# EAGLE library part PIC18F4550-I/P (library PIC18F4550-I_P)
PIC18 Series 2 kB RAM 32 kB Flash 8-Bit Enhanced Microcontroller - PDIP-40 Check availability <https://pricing.snapeda.com/parts/PIC18F4550-I/P/Microchip/view-part?ref=eda>
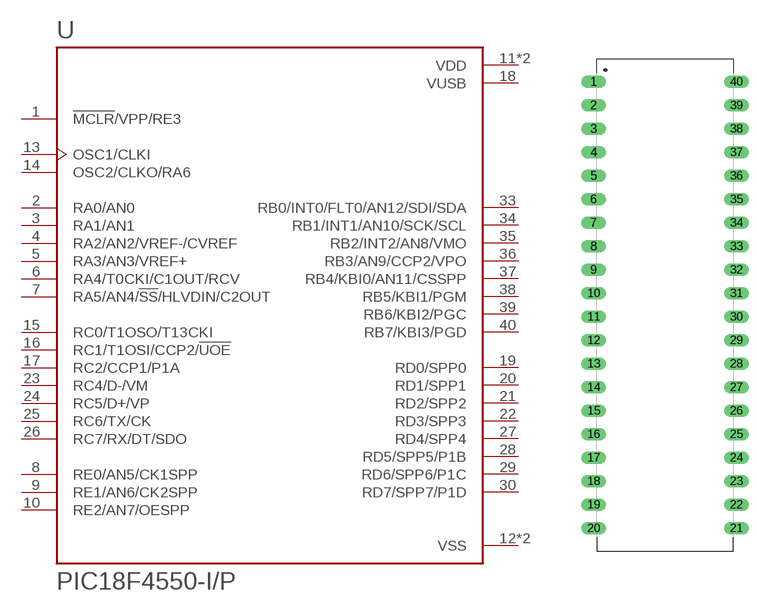
[diagram p0: symbol with the pads of DIP1543W47P254L5321H635Q40; footprint DIP1543W47P254L5321H635Q40]

Designator prefix U

## PIC18F4550-I/P (AVAILABILITY: In Stock; DESCRIPTION: PIC PIC® 18F Microcontroller IC 8-Bit 48MHz 32KB (16K x 16) FLASH 44-TQFP (10x10); MF: Microchip; MP: PIC18F4550-I/P; PACKAGE: TQFP-44 Microchip; PRICE: None; PURCHASE-URL: https://pricing.snapeda.com/search/part/PIC18F4550-I/P/?ref=eda)  [DIP1543W47P254L5321H635Q40]
1  !MCLR!/VPP/RE3  in
2  RA0/AN0
3  RA1/AN1
4  RA2/AN2/VREF-/CVREF
5  RA3/AN3/VREF+
6  RA4/T0CKI/C1OUT/RCV
7  RA5/AN4/!SS!/HLVDIN/C2OUT
8  RE0/AN5/CK1SPP
9  RE1/AN6/CK2SPP
10  RE2/AN7/OESPP
11  VDD  pwr
12  VSS  pwr
13  OSC1/CLKI  in
14  OSC2/CLKO/RA6
15  RC0/T1OSO/T13CKI
16  RC1/T1OSI/CCP2/!UOE
17  RC2/CCP1/P1A
18  VUSB
19  RD0/SPP0
20  RD1/SPP1
21  RD2/SPP2
22  RD3/SPP3
23  RC4/D-/VM
24  RC5/D+/VP
25  RC6/TX/CK
26  RC7/RX/DT/SDO
27  RD4/SPP4
28  RD5/SPP5/P1B
29  RD6/SPP6/P1C
30  RD7/SPP7/P1D
31  VSS  pwr
32  VDD  pwr
33  RB0/INT0/FLT0/AN12/SDI/SDA
34  RB1/INT1/AN10/SCK/SCL
35  RB2/INT2/AN8/VMO
36  RB3/AN9/CCP2/VPO
37  RB4/KBI0/AN11/CSSPP
38  RB5/KBI1/PGM
39  RB6/KBI2/PGC
40  RB7/KBI3/PGD

## Footprint DIP1543W47P254L5321H635Q40 (pad centres in mm)
PIC18 Series 2 kB RAM 32 kB Flash 8-Bit Enhanced Microcontroller - PDIP-40
drill 0.85 pad 1.28 long: 1 -7.715,24.13; 2 -7.715,21.59; 3 -7.715,19.05; 4 -7.715,16.51; 5 -7.715,13.97; 6 -7.715,11.43; 7 -7.715,8.89; 8 -7.715,6.35; 9 -7.715,3.81; 10 -7.715,1.27; 11 -7.715,-1.27; 12 -7.715,-3.81; 13 -7.715,-6.35; 14 -7.715,-8.89; 15 -7.715,-11.43; 16 -7.715,-13.97; 17 -7.715,-16.51; 18 -7.715,-19.05; 19 -7.715,-21.59; 20 -7.715,-24.13; 21 7.715,-24.13; 22 7.715,-21.59; 23 7.715,-19.05; 24 7.715,-16.51; 25 7.715,-13.97; 26 7.715,-11.43; 27 7.715,-8.89; 28 7.715,-6.35; 29 7.715,-3.81; 30 7.715,-1.27; 31 7.715,1.27; 32 7.715,3.81; 33 7.715,6.35; 34 7.715,8.89; 35 7.715,11.43; 36 7.715,13.97; 37 7.715,16.51; 38 7.715,19.05; 39 7.715,21.59; 40 7.715,24.13